# EAGLE library part MAX7300AAI (library maxim)
I2C, 2.5V to 5.5V, 20-Port I/O Expander
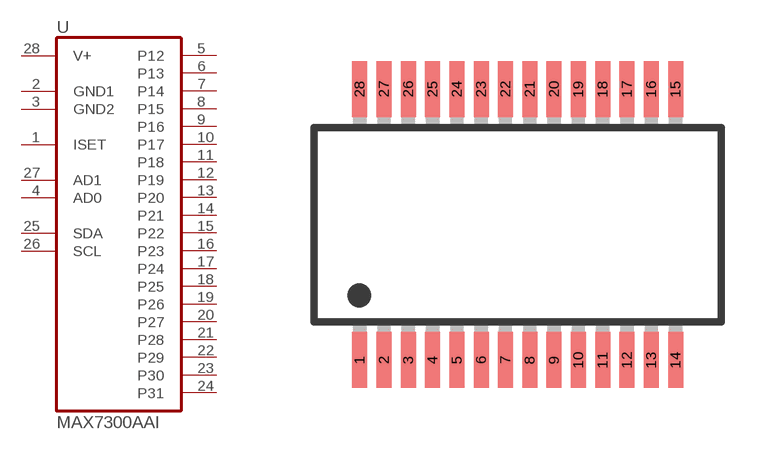
[diagram p397: symbol with the pads of SSOP28L; footprint SSOP28L]

Designator prefix U

## MAX7300AAI  [SSOP28L]
1  ISET  in
2  GND1  pwr
3  GND2  pwr
4  AD0  in
5  P12  out
6  P13  out
7  P14  out
8  P15  out
9  P16  out
10  P17  out
11  P18  out
12  P19  out
13  P20  out
14  P21  out
15  P22  out
16  P23  out
17  P24  out
18  P25  out
19  P26  out
20  P27  out
21  P28  out
22  P29  out
23  P30  out
24  P31  out
25  SDA  in
26  SCL  in
27  AD1  in
28  V+  pwr

## Footprint SSOP28L (pad centres in mm)
Shrink Small Outline Package body 5.5 x 11.0 mm
smd 0.4 x 1.5: 1 -4.225,-3.625; 2 -3.575,-3.625; 3 -2.925,-3.625; 4 -2.275,-3.625; 5 -1.625,-3.625; 6 -0.975,-3.625; 7 -0.325,-3.625; 8 0.325,-3.625; 9 0.975,-3.625; 10 1.625,-3.625; 11 2.275,-3.625; 12 2.925,-3.625; 13 3.575,-3.625; 14 4.225,-3.625; 15 4.225,3.625; 16 3.575,3.625; 17 2.925,3.625; 18 2.275,3.625; 19 1.625,3.625; 20 0.975,3.625; 21 0.325,3.625; 22 -0.325,3.625; 23 -0.975,3.625; 24 -1.625,3.625; 25 -2.275,3.625; 26 -2.925,3.625; 27 -3.575,3.625; 28 -4.225,3.625